# Altium schematic symbol library Res_Vishay_CRCW04020000Z0ED_eec.SchLib: 1 symbol
Pins are listed as number, name and electrical type; pins without a type are passive.

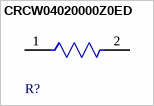
[diagram p0: symbol CRCW04020000Z0ED]

## CRCW04020000Z0ED
designator R?  (value not drawn)
pins: 1, 2